# Altium schematic symbol library Schematics_Semiconductors.SchLib: 2 symbols
Pins are listed as number, name and electrical type; pins without a type are passive.

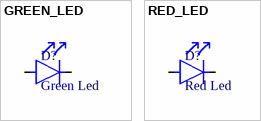
[diagram p0: symbols GREEN_LED to RED_LED]

## GREEN_LED
designator D?, comment Green Led
footprint GREEN_LED
pins: 1, 2

## RED_LED
designator D?, comment Red Led
footprint RED_LED
pins: 1, 2